# Altium integrated library 77311-101-06LF.IntLib: 1 symbol
Pins are listed as number, name and electrical type; pins without a type are passive.

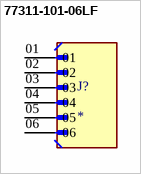
[diagram p0: symbol 77311-101-06LF]

## 77311-101-06LF
designator J?
MF: Amphenol; MP: 77311-101-06LF; Package: None; Price: None; Value: *; Availability: Unavailable
footprint AMPHENOL_77311-101-06LF
pins: 01, 02, 03, 04, 05, 06